# EAGLE library part OPAMP-AD8052 (library STM32-PROX)
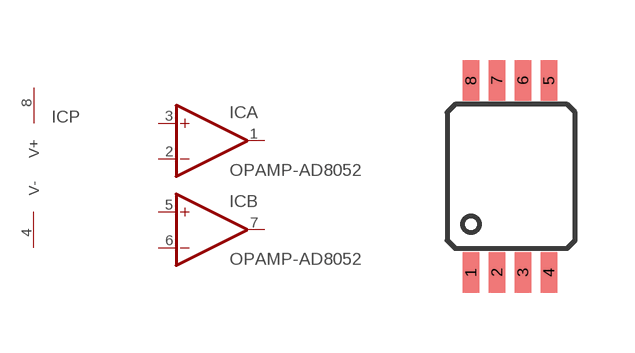
[diagram p8: symbol with the pads of MSOP8; footprint MSOP8]

Designator prefix IC; gates A=OPAMP B=OPAMP P=POWER-PINS

## OPAMP-AD8052  [MSOP8]
1  A:OUT  out
2  A:-IN  in
3  A:+IN  in
4  P:V-
5  B:+IN  in
6  B:-IN  in
7  B:OUT  out
8  P:V+

## Footprint MSOP8 (pad centres in mm)
smd 0.41 x 1.02: 1 0,0; 2 0.65,0; 3 1.3,0; 4 1.95,0; 5 1.95,4.8; 6 1.3,4.8; 7 0.65,4.8; 8 0,4.8